# EAGLE library part CMA3000-D01 (library wsn)
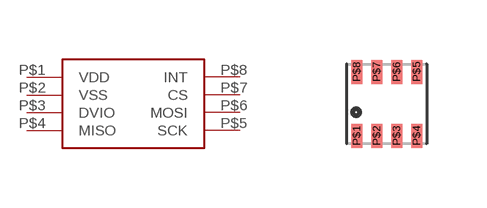
[diagram p220: symbol with the pads of CMA3000; footprint CMA3000]

Designator prefix -

## CMA3000-D01  [CMA3000]
P$1  VDD
P$2  VSS
P$3  DVIO
P$4  MISO
P$5  SCK
P$6  MOSI
P$7  CS
P$8  INT

## Footprint CMA3000 (pad centres in mm)
smd 0.275 x 0.6: P$1 -0.75,-0.8; P$2 -0.25,-0.8; P$3 0.25,-0.8; P$4 0.75,-0.8; P$5 0.75,0.8; P$6 0.25,0.8; P$7 -0.25,0.8; P$8 -0.75,0.8